# EAGLE library part LTC3245 (library FaBo-Supply)
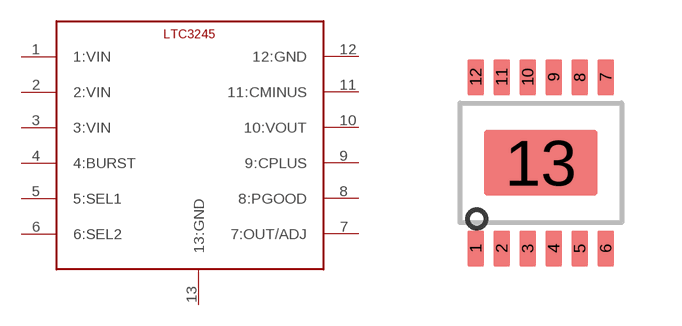
[diagram p18: symbol with the pads of MSOP12; footprint MSOP12]

Designator prefix -

## LTC3245  [MSOP12]
1  1:VIN
2  2:VIN
3  3:VIN
4  4:BURST
5  5:SEL1
6  6:SEL2
7  7:OUT/ADJ
8  8:PGOOD
9  9:CPLUS
10  10:VOUT
11  11:CMINUS
12  12:GND
13  13:GND

## Footprint MSOP12 (pad centres in mm)
smd 0.42 x 0.889: 1 -1.625,-2.144; 2 -0.975,-2.144; 3 -0.325,-2.144; 4 0.325,-2.144; 5 0.975,-2.144; 6 1.625,-2.144; 7 1.625,2.144; 8 0.975,2.144; 9 0.325,2.144; 10 -0.325,2.144; 11 -0.975,2.144; 12 -1.625,2.144
smd 2.845 x 1.651: 13 0,0